# Altium schematic symbol library SCH - POWER - LINEAR VREG - TI TPS7B8233-Q1DRV.SchLib: 1 symbol
Pins are listed as number, name and electrical type; pins without a type are passive.

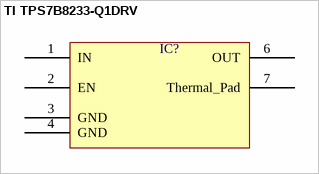
[diagram p0: symbol TI TPS7B8233-Q1DRV]

## TI TPS7B8233-Q1DRV
designator IC?  (value not drawn)
pins: 1 IN, 2 EN, 3 GND, 4 GND, 6 OUT, 7 Thermal_Pad